# Altium schematic symbol library WIFI_ANTENNA.SchLib: 1 symbol
Pins are listed as number, name and electrical type; pins without a type are passive.

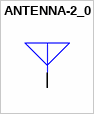
[diagram p0: symbol ANTENNA-2_0]

## ANTENNA-2_0
designator U?  (value not drawn)
Source_Path: D:\FIRE_LAYOUT\ESP8266.DSN; PCB DECAL: ANTENNA; Value: ANTENNA-2
footprint ANTENNA
pins: 1